# EAGLE library part FH52E-50S-0.5SH (library CONNECTORs)
50 Position FFC, FPC Connector Contacts, Bottom 0.020" (0.50mm) Surface Mount, Right Angle
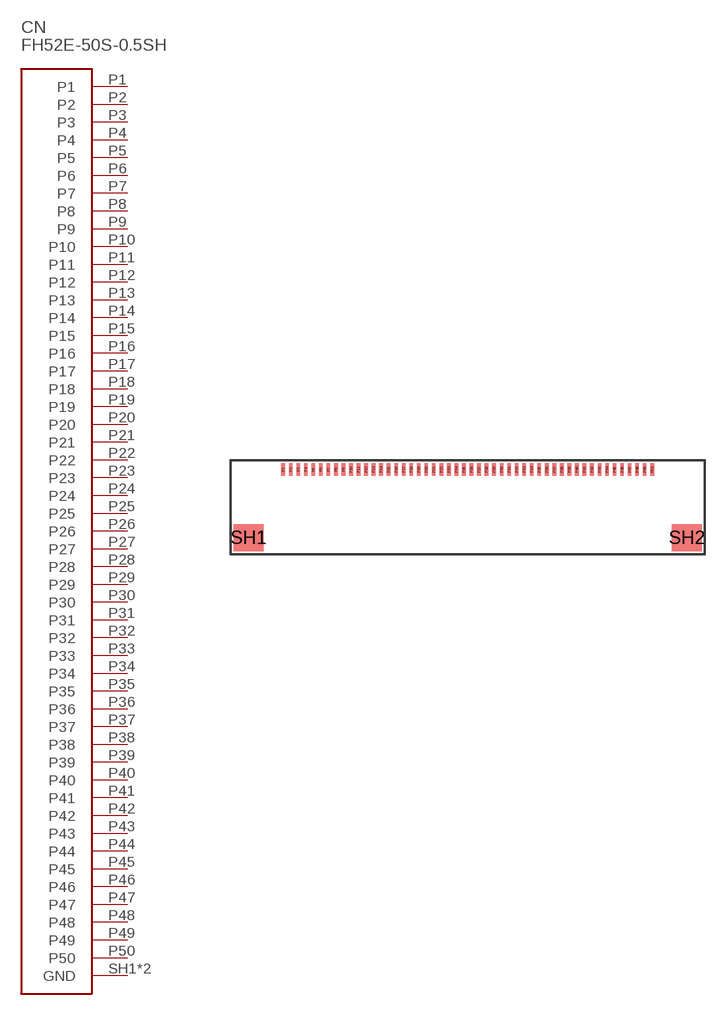
[diagram p50: symbol with the pads of FH52E-50S-0.5SH; footprint FH52E-50S-0.5SH]

Designator prefix CN

## FH52E-50S-0.5SH (DIGIKEY: H124735DKR-ND; HEIGHT: 2; PRICE_PER: 4.28; VALUE: 50 PIN 0.5MM)  [FH52E-50S-0.5SH]
P1  P1
P2  P2
P3  P3
P4  P4
P5  P5
P6  P6
P7  P7
P8  P8
P9  P9
P10  P10
P11  P11
P12  P12
P13  P13
P14  P14
P15  P15
P16  P16
P17  P17
P18  P18
P19  P19
P20  P20
P21  P21
P22  P22
P23  P23
P24  P24
P25  P25
P26  P26
P27  P27
P28  P28
P29  P29
P30  P30
P31  P31
P32  P32
P33  P33
P34  P34
P35  P35
P36  P36
P37  P37
P38  P38
P39  P39
P40  P40
P41  P41
P42  P42
P43  P43
P44  P44
P45  P45
P46  P46
P47  P47
P48  P48
P49  P49
P50  P50
SH1  GND
SH2  GND

## Footprint FH52E-50S-0.5SH (pad centres in mm)
smd 0.25 x 0.85: P1 -12.25,2.5; P2 -11.75,2.5; P3 -11.25,2.5; P4 -10.75,2.5; P5 -10.25,2.5; P6 -9.75,2.5; P7 -9.25,2.5; P8 -8.75,2.5; P9 -8.25,2.5; P10 -7.75,2.5; P11 -7.25,2.5; P12 -6.75,2.5; P13 -6.25,2.5; P14 -5.75,2.5; P15 -5.25,2.5; P16 -4.75,2.5; P17 -4.25,2.5; P18 -3.75,2.5; P19 -3.25,2.5; P20 -2.75,2.5; P21 -2.25,2.5; P22 -1.75,2.5; P23 -1.25,2.5; P24 -0.75,2.5; P25 -0.25,2.5; P26 0.25,2.5; P27 0.75,2.5; P28 1.25,2.5; P29 1.75,2.5; P30 2.25,2.5; P31 2.75,2.5; P32 3.25,2.5; P33 3.75,2.5; P34 4.25,2.5; P35 4.75,2.5; P36 5.25,2.5; P37 5.75,2.5; P38 6.25,2.5; P39 6.75,2.5; P40 7.25,2.5; P41 7.75,2.5; P42 8.25,2.5; P43 8.75,2.5; P44 9.25,2.5; P45 9.75,2.5; P46 10.25,2.5; P47 10.75,2.5; P48 11.25,2.5; P49 11.75,2.5; P50 12.25,2.5
smd 2 x 1.8: SH1 -14.55,-2.025; SH2 14.55,-2.025